# Altium schematic symbol library T491A104K035AT.SchLib: 1 symbol
Pins are listed as number, name and electrical type; pins without a type are passive.

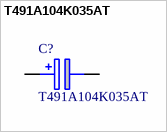
[diagram p0: symbol T491A104K035AT]

## T491A104K035AT
designator C?
100nF 35V 20Ω@100kHz ±10% CASE-A-3216 Tantalum Capacitors ROHS; Manufacturer: KEMET; Package: CASE-A-3216; Packaging: Tape & Reel (TR); LCSC Part #: C122257; Value: 100nF; Mfr.Part #: T491A104K035AT; Datasheet: chrome-extension://efaidnbmnnnibpcajpcglclefindmkaj/https://datasheet.lcsc.com/lcsc/2304140030_KEMET-T491A104K035AT_C122257.pdf
footprint T491A
pins: 1 +, 2 -